# Altium footprint library AWR1843Antenna.PcbLib: 1 footprints
Each footprint in its own frame and in the unit in brackets; x right, y up, seen from the top. Pads: shape width x height; smd on the part's side, far side on the other; paste and mask are expansions set on the pad; w line width, h text height; cw(c..) or ccw(c..) is an arc to the next point about the centre after c.
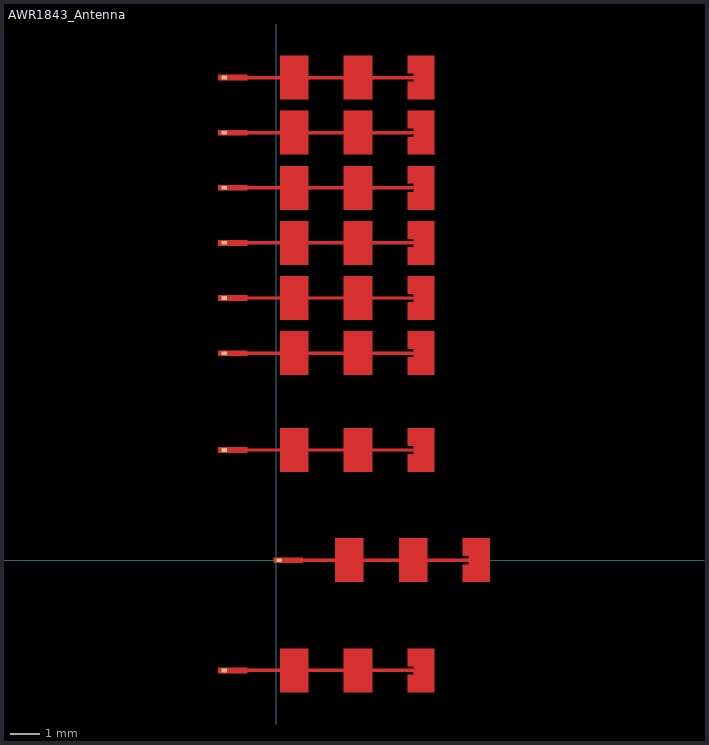
[diagram p0: the footprint, top view; thin cyan lines are the x and y axes]

## AWR1843_Antenna [mil] "AWR1843 reference Antenna"
pads (9):
  rect 8x5 smd: GND(-70.19,281.39) GND(-70.19,655.4) RX1(-70.19,580.6) RX2(-70.19,505.8) RX3(-70.19,431) RX4(-70.19,356.19) TX1(-70.19,149.9) TX2(4.38,0.29) TX3(-70.19,-149.31)
Top Layer:
  region: 215.12,-178.84 178.9,-178.84 178.9,-155.22 186.81,-155.22 186.81,-151.28 130.47,-151.28 130.47,-178.84 92.28,-178.84 92.28,-151.28 43.86,-151.28 43.86,-178.84 5.67,-178.84 5.67,-151.28 -38.82,-151.28 -38.82,-152.86 -78.19,-152.86 -78.19,-145.77 -38.82,-145.77 -38.82,-147.34 5.67,-147.34 5.67,-119.79 43.86,-119.79 43.86,-147.34 92.28,-147.34 92.28,-119.79 130.47,-119.79 130.47,-147.34 186.81,-147.34 186.81,-143.41 178.9,-143.41 178.9,-119.79 215.12,-119.79
  region: 289.92,-29.23 253.7,-29.23 253.7,-5.61 261.62,-5.61 261.62,-1.68 205.28,-1.68 205.28,-29.23 167.09,-29.23 167.09,-1.68 118.66,-1.68 118.66,-29.23 80.47,-29.23 80.47,-1.68 35.99,-1.68 35.99,-3.25 -3.38,-3.25 -3.38,3.84 35.99,3.84 35.99,2.26 80.47,2.26 80.47,29.82 118.66,29.82 118.66,2.26 167.09,2.26 167.09,29.82 205.28,29.82 205.28,2.26 261.62,2.26 261.62,6.2 253.7,6.2 253.7,29.82 289.92,29.82
  region: 215.12,120.37 178.9,120.37 178.9,143.99 186.81,143.99 186.81,147.93 130.47,147.93 130.47,120.37 92.28,120.37 92.28,147.93 43.86,147.93 43.86,120.37 5.67,120.37 5.67,147.93 -38.82,147.93 -38.82,146.36 -78.19,146.36 -78.19,153.44 -38.82,153.44 -38.82,151.87 5.67,151.87 5.67,179.43 43.86,179.43 43.86,151.87 92.28,151.87 92.28,179.43 130.47,179.43 130.47,151.87 186.81,151.87 186.81,155.81 178.9,155.81 178.9,179.43 215.12,179.43
  region: 215.12,326.66 178.9,326.66 178.9,350.28 186.81,350.28 186.81,354.22 130.47,354.22 130.47,326.66 92.28,326.66 92.28,354.22 43.86,354.22 43.86,326.66 5.67,326.66 5.67,354.22 -38.82,354.22 -38.82,352.65 -78.19,352.65 -78.19,359.73 -38.82,359.73 -38.82,358.16 5.67,358.16 5.67,385.72 43.86,385.72 43.86,358.16 92.28,358.16 92.28,385.72 130.47,385.72 130.47,358.16 186.81,358.16 186.81,362.1 178.9,362.1 178.9,385.72 215.12,385.72
  region: 215.12,401.47 178.9,401.47 178.9,425.09 186.81,425.09 186.81,429.02 130.47,429.02 130.47,401.47 92.28,401.47 92.28,429.02 43.86,429.02 43.86,401.47 5.67,401.47 5.67,429.02 -38.82,429.02 -38.82,427.45 -78.19,427.45 -78.19,434.54 -38.82,434.54 -38.82,432.96 5.67,432.96 5.67,460.52 43.86,460.52 43.86,432.96 92.28,432.96 92.28,460.52 130.47,460.52 130.47,432.96 186.81,432.96 186.81,436.9 178.9,436.9 178.9,460.52 215.12,460.52
  region: 215.12,551.07 178.9,551.07 178.9,574.69 186.81,574.69 186.81,578.63 130.47,578.63 130.47,551.07 92.28,551.07 92.28,578.63 43.86,578.63 43.86,551.07 5.67,551.07 5.67,578.63 -38.82,578.63 -38.82,577.06 -78.19,577.06 -78.19,584.14 -38.82,584.14 -38.82,582.57 5.67,582.57 5.67,610.13 43.86,610.13 43.86,582.57 92.28,582.57 92.28,610.13 130.47,610.13 130.47,582.57 186.81,582.57 186.81,586.5 178.9,586.5 178.9,610.13 215.12,610.13
  region: 215.12,625.87 178.9,625.87 178.9,649.49 186.81,649.49 186.81,653.43 130.47,653.43 130.47,625.87 92.28,625.87 92.28,653.43 43.86,653.43 43.86,625.87 5.67,625.87 5.67,653.43 -38.82,653.43 -38.82,651.86 -78.19,651.86 -78.19,658.94 -38.82,658.94 -38.82,657.37 5.67,657.37 5.67,684.93 43.86,684.93 43.86,657.37 92.28,657.37 92.28,684.93 130.47,684.93 130.47,657.37 186.81,657.37 186.81,661.3 178.9,661.3 178.9,684.93 215.12,684.93
  region: 215.12,251.86 178.9,251.86 178.9,275.48 186.81,275.48 186.81,279.42 130.47,279.42 130.47,251.86 92.28,251.86 92.28,279.42 43.86,279.42 43.86,251.86 5.67,251.86 5.67,279.42 -38.82,279.42 -38.82,277.85 -78.19,277.85 -78.19,284.93 -38.82,284.93 -38.82,283.36 5.67,283.36 5.67,310.92 43.86,310.92 43.86,283.36 92.28,283.36 92.28,310.92 130.47,310.92 130.47,283.36 186.81,283.36 186.81,287.29 178.9,287.29 178.9,310.92 215.12,310.92
  region: 215.12,476.27 178.9,476.27 178.9,499.89 186.81,499.89 186.81,503.83 130.47,503.83 130.47,476.27 92.28,476.27 92.28,503.83 43.86,503.83 43.86,476.27 5.67,476.27 5.67,503.83 -38.82,503.83 -38.82,502.25 -78.19,502.25 -78.19,509.34 -38.82,509.34 -38.82,507.76 5.67,507.76 5.67,535.32 43.86,535.32 43.86,507.76 92.28,507.76 92.28,535.32 130.47,535.32 130.47,507.76 186.81,507.76 186.81,511.7 178.9,511.7 178.9,535.32 215.12,535.32